# EAGLE library part CC1120RHBR (library CC1120)
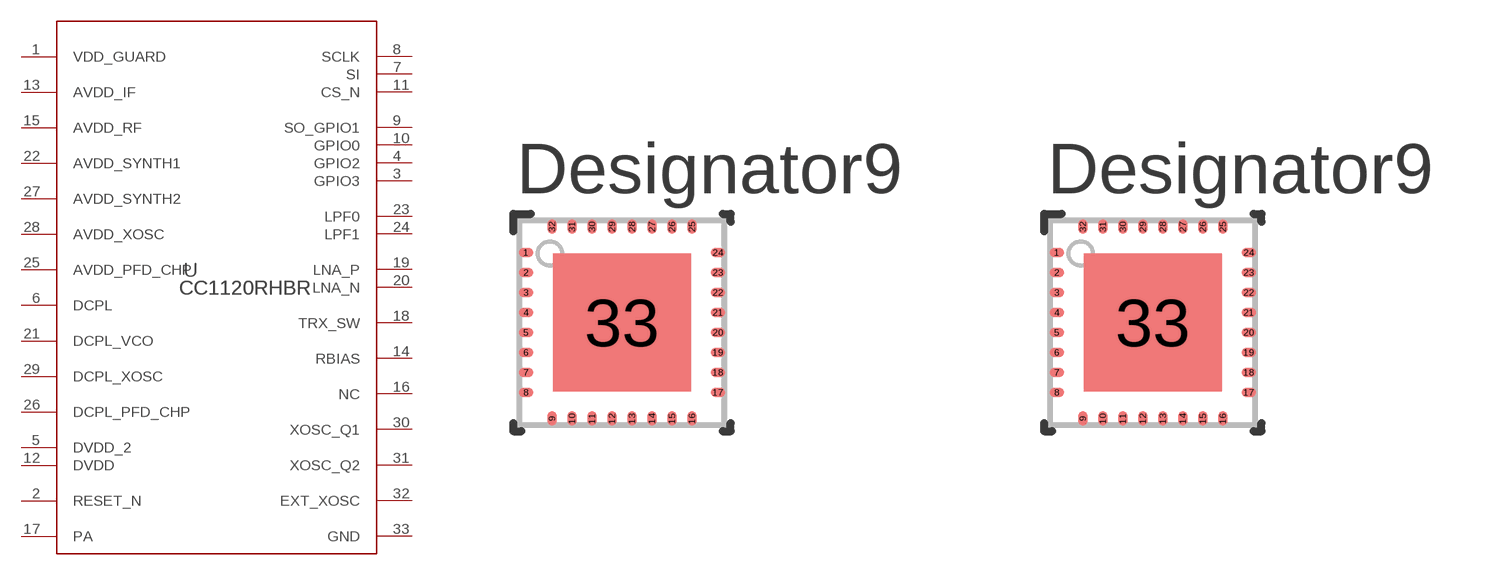
[diagram p0: symbol with the pads of RHB0032E; footprints RHB0032E, RHB0032E_NV]

Designator prefix U

## CC1120RHBR  [RHB0032E]
1  VDD_GUARD  pwr
2  RESET_N  in
3  GPIO3
4  GPIO2
5  DVDD_2  pwr
6  DCPL  pwr
7  SI  in
8  SCLK  in
9  SO_GPIO1
10  GPIO0
11  CS_N  in
12  DVDD  pwr
13  AVDD_IF  pwr
14  RBIAS  pas
15  AVDD_RF  pwr
16  NC  pas
17  PA  out
18  TRX_SW  pas
19  LNA_P  in
20  LNA_N  in
21  DCPL_VCO  pwr
22  AVDD_SYNTH1  pwr
23  LPF0  pas
24  LPF1  pas
25  AVDD_PFD_CHP  pwr
26  DCPL_PFD_CHP  pwr
27  AVDD_SYNTH2  pwr
28  AVDD_XOSC  pwr
29  DCPL_XOSC  pwr
30  XOSC_Q1  pas
31  XOSC_Q2  pas
32  EXT_XOSC  in
33  GND  pwr

## CC1120RHBRRHB0032E_NV  [RHB0032E_NV]
Pads as for RHB0032E

## Footprint RHB0032E (pad centres in mm)
smd 0.36 x 0.24: 1 -2.4,1.75; 2 -2.4,1.25; 3 -2.4,0.75; 4 -2.4,0.25; 5 -2.4,-0.25; 6 -2.4,-0.75; 7 -2.4,-1.25; 8 -2.4,-1.75; 17 2.4,-1.75; 18 2.4,-1.25; 19 2.4,-0.75; 20 2.4,-0.25; 21 2.4,0.25; 22 2.4,0.75; 23 2.4,1.25; 24 2.4,1.75
smd 0.24 x 0.36: 9 -1.75,-2.4; 10 -1.25,-2.4; 11 -0.75,-2.4; 12 -0.25,-2.4; 13 0.25,-2.4; 14 0.75,-2.4; 15 1.25,-2.4; 16 1.75,-2.4; 25 1.75,2.4; 26 1.25,2.4; 27 0.75,2.4; 28 0.25,2.4; 29 -0.25,2.4; 30 -0.75,2.4; 31 -1.25,2.4; 32 -1.75,2.4
smd 3.45 x 3.45: 33 0,0

## Footprint RHB0032E_NV (pad centres in mm)
smd 0.36 x 0.24: 1 -2.4,1.75; 2 -2.4,1.25; 3 -2.4,0.75; 4 -2.4,0.25; 5 -2.4,-0.25; 6 -2.4,-0.75; 7 -2.4,-1.25; 8 -2.4,-1.75; 17 2.4,-1.75; 18 2.4,-1.25; 19 2.4,-0.75; 20 2.4,-0.25; 21 2.4,0.25; 22 2.4,0.75; 23 2.4,1.25; 24 2.4,1.75
smd 0.24 x 0.36: 9 -1.75,-2.4; 10 -1.25,-2.4; 11 -0.75,-2.4; 12 -0.25,-2.4; 13 0.25,-2.4; 14 0.75,-2.4; 15 1.25,-2.4; 16 1.75,-2.4; 25 1.75,2.4; 26 1.25,2.4; 27 0.75,2.4; 28 0.25,2.4; 29 -0.25,2.4; 30 -0.75,2.4; 31 -1.25,2.4; 32 -1.75,2.4
smd 3.45 x 3.45: 33 0,0